# Altium schematic symbol library lc125c.SchLib: 2 symbols
Pins are listed as number, name and electrical type; pins without a type are passive.

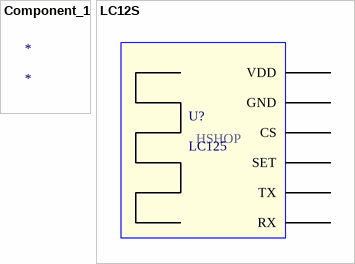
[diagram p0: symbols Component_1 to LC12S]

## Component_1
designator *

## LC12S
designator U?, comment LC125  Local supplier: HSHOP
ComponentLink1Description: LC125; ComponentLink1URL: https://hshop.vn/products/mach-thu-phat-rf-uart-lc12s-2-4ghz?fbclid=IwAR1NIYiWxxjqyQFQS5YmZ54eD_X7SrnuPScnG1CYn17biH2eOLaeQwyqNpg; Local supplier part number: HS000895; Supplier 1: Digi-Key; Supplier Part Number 1: LC12-ST50-ND
pins: 1 VDD, 2 GND, 3 CS, 4 SET, 5 TX, 6 RX